# Altium schematic symbol library ANT3216LL00R2400A.SchLib: 1 symbol
Pins are listed as number, name and electrical type; pins without a type are passive.

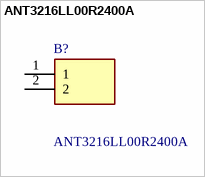
[diagram p0: symbol ANT3216LL00R2400A]

## ANT3216LL00R2400A
designator B?
Antennas 1W 2.4-2.5GHz ANTENNA; Manufacturer_Name: Yageo Group; Geometry.Height: 1.35mm; Manufacturer_Part_Number: ANT3216LL00R2400A; Mouser Part Number: 603-ANT3216LL00R2400; Mouser Price/Stock: https://www.mouser.co.uk/ProductDetail/Pulse-Electronics/ANT3216LL00R2400A?qs=VAB4DzKv5wVywAIgVVebaA%3D%3D; Arrow Part Number: ANT3216LL00R2400A; Arrow Price/Stock: https://www.arrow.com/en/products/ant3216ll00r2400a/pulse-electronics-corporation.html?utm_currency=USD&region=nac; Datasheet Link: https://eu.mouser.com/datasheet/2/336/datasheet_ant3216ll00r2400a_v1_1617827483-2529684.pdf
footprint ANT3216LL00R2400A
pins: 1, 2